# EAGLE library part LM5104 (library okamoto)
Half-Bridge driver IC National Semiconductor
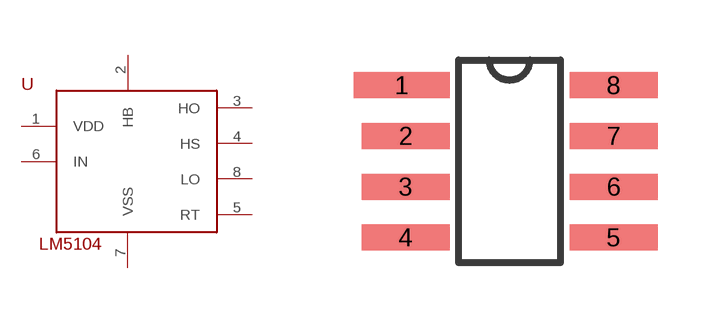
[diagram p9: symbol with the pads of SOIC-8; footprint SOIC-8]

Designator prefix U

## LM5104  [SOIC-8]
1  VDD  pwr
2  HB
3  HO
4  HS
5  RT
6  IN
7  VSS  pwr
8  LO

## Footprint SOIC-8 (pad centres in mm)
smd 2.4 x 0.65: 1 -2.7,1.905
smd 2.2 x 0.65: 2 -2.6,0.635; 3 -2.6,-0.635; 4 -2.6,-1.905; 5 2.6,-1.905; 6 2.6,-0.635; 7 2.6,0.635; 8 2.6,1.905